# Altium schematic symbol library Ceramic Capacitors.SchLib: 32 symbols
Pins are listed as number, name and electrical type; pins without a type are passive.

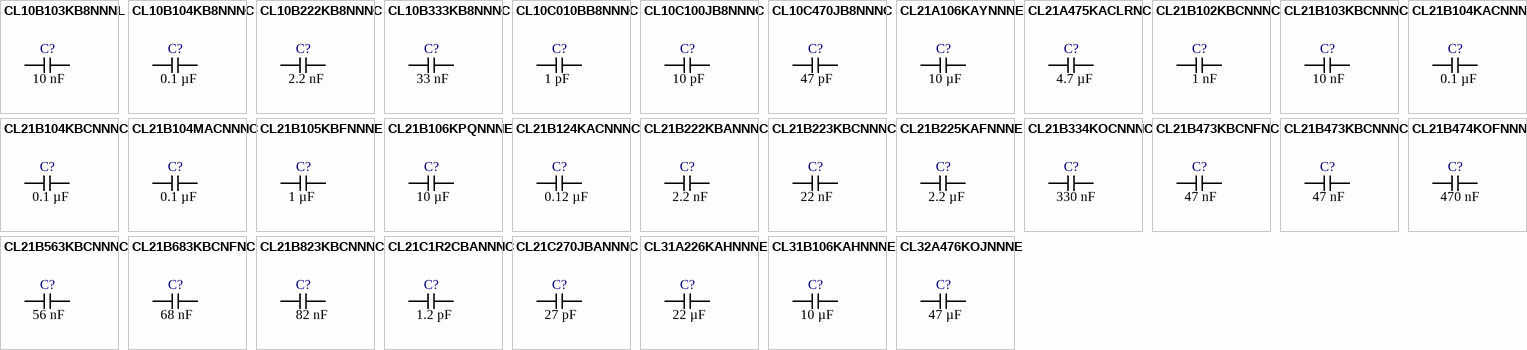
[diagram p0: symbols CL10B103KB8NNNL to CL32A476KOJNNNE]

## CL10B103KB8NNNL
designator C?  Capacitance: 10 nF  (hidden comment: *)
CAP CER 10000PF 50V X7R 0603; Supplier 1: Mouser; Supplier Part Number 1: 187-CL10B103KB8NNNL
footprint SAMSUNG_CAP_0603_090
pins: 1, 2

## CL10B104KB8NNNC
designator C?  Capacitance: 0.1 µF  (hidden comment: *)
CAP CER 0.1UF 50V X7R 0603; Supplier 1: Digi-Key; Supplier 2: Mouser; Supplier 3: Arrow Electronics; Supplier Part Number 1: 1276-1000-6-ND; Supplier Part Number 2: 187-CL10B104KB8NNNC; Supplier Part Number 3: CL10B104KB8NNNC
footprint SAMSUNG_CAP_0603_090
pins: 1, 2

## CL10B222KB8NNNC
designator C?  Capacitance: 2.2 nF  (hidden comment: *)
CAP CER 2200PF 50V X7R 0603; Supplier 1: Digi-Key; Supplier 2: Farnell; Supplier 3: Mouser; Supplier 4: Arrow Electronics; Supplier Part Number 1: 1276-1110-1-ND; Supplier Part Number 2: 3013424; Supplier Part Number 3: 187-CL10B222KB8NNNC; Supplier Part Number 4: CL10B222KB8NNNC
footprint SAMSUNG_CAP_0603_090
pins: 1, 2

## CL10B333KB8NNNC
designator C?  Capacitance: 33 nF  (hidden comment: *)
CAP CER 0.033UF 50V X7R 0603; Supplier 1: Digi-Key; Supplier 2: Mouser; Supplier Part Number 1: 1276-2041-6-ND; Supplier Part Number 2: 187-CL10B333KB8NNNC
footprint SAMSUNG_CAP_0603_090
pins: 1, 2

## CL10C010BB8NNNC
designator C?  Capacitance: 1 pF  (hidden comment: *)
CAP CER 1PF 50V C0G/NP0 0603; Supplier 1: Digi-Key; Supplier 2: Arrow Electronics; Supplier Part Number 1: 1276-1095-1-ND; Supplier Part Number 2: CL10C010BB8NNNC
footprint SAMSUNG_CAP_0603_090
pins: 1, 2

## CL10C100JB8NNNC
designator C?  Capacitance: 10 pF  (hidden comment: *)
CAP CER 10PF 50V C0G/NP0 0603; Supplier 1: Digi-Key; Supplier 2: Farnell; Supplier 3: Mouser; Supplier 4: Arrow Electronics; Supplier Part Number 1: 1276-1027-1-ND; Supplier Part Number 2: 3013438; Supplier Part Number 3: 187-CL10C100JB8NNNC; Supplier Part Number 4: CL10C100JB8NNNC
footprint SAMSUNG_CAP_0603_090
pins: 1, 2

## CL10C470JB8NNNC
designator C?  Capacitance: 47 pF  (hidden comment: *)
CAP CER 47PF 50V C0G/NP0 0603; Supplier 1: Digi-Key; Supplier 2: Farnell; Supplier 3: Mouser; Supplier Part Number 1: 1276-1037-1-ND; Supplier Part Number 2: 3013448; Supplier Part Number 3: 187-CL10C470JB8NNNC
footprint SAMSUNG_CAP_0603_090
pins: 1, 2

## CL21A106KAYNNNE
designator C?  Capacitance: 10 µF  (hidden comment: *)
CAP CER 10UF 25V X5R 0805; Supplier 1: Digikey; Supplier Part Number 1: 1276-2891-1-ND; Supplier 2: Farnell; Supplier Part Number 2: 3013452; Supplier 3: Mouser; Supplier Part Number 3: 187-CL21A106KAYNNNE
footprint SAMSUNG_CAP_0805_145
pins: 1, 2

## CL21A475KACLRNC
designator C?  Capacitance: 4.7 µF  (hidden comment: *)
CAP CER 4.7UF 25V X5R 0805; Supplier 1: Digi-Key; Supplier 2: Mouser; Supplier 3: Arrow Electronics; Supplier Part Number 1: 1276-2415-1-ND; Supplier Part Number 2: 187-CL21A475KACLRNC; Supplier Part Number 3: CL21A475KACLRNC
footprint SAMSUNG_CAP_0805_095
pins: 1, 2

## CL21B102KBCNNNC
designator C?  Capacitance: 1 nF  (hidden comment: *)
CAP CER 1000PF 50V X7R 0805; Supplier 1: Digi-Key; Supplier 2: Farnell; Supplier 3: Mouser; Supplier Part Number 1: 1276-2425-1-ND; Supplier Part Number 2: 3013468; Supplier Part Number 3: 187-CL21B102KBCNNNC
footprint SAMSUNG_CAP_0805_095
pins: 1, 2

## CL21B103KBCNNNC
designator C?  Capacitance: 10 nF  (hidden comment: *)
CAP CER 10000PF 50V X7R 0805; Supplier 1: Digi-Key; Supplier 2: Farnell; Supplier 3: Mouser; Supplier 4: Arrow Electronics; Supplier Part Number 1: 1276-1078-6-ND; Supplier Part Number 2: 3013471; Supplier Part Number 3: 187-CL21B103KBCNNNC; Supplier Part Number 4: CL21B103KBCNNNC
footprint SAMSUNG_CAP_0805_095
pins: 1, 2

## CL21B104KACNNNC
designator C?  Capacitance: 0.1 µF  (hidden comment: *)
CAP CER 0.1UF 25V X7R 0805; Supplier 1: Digi-Key; Supplier 2: Farnell; Supplier 3: Mouser; Supplier Part Number 1: 1276-1099-1-ND; Supplier Part Number 2: 3013475; Supplier Part Number 3: 187-CL21B104KACNNNC
footprint SAMSUNG_CAP_0805_095
pins: 1, 2

## CL21B104KBCNNNC
designator C?  Capacitance: 0.1 µF  (hidden comment: *)
CAP CER 0.1UF 50V X7R 0805; Supplier 1: Digi-Key; Supplier 2: Farnell; Supplier 3: Mouser; Supplier Part Number 1: 1276-1003-6-ND; Supplier Part Number 2: 3013476; Supplier Part Number 3: 187-CL21B104KBCNNNC
footprint SAMSUNG_CAP_0805_095
pins: 1, 2

## CL21B104MACNNNC
designator C?  Capacitance: 0.1 µF  (hidden comment: *)
CAP CER 0.1UF 25V X7R 0805; Supplier 1: Digi-Key; Supplier 2: Mouser; Supplier 3: Arrow Electronics; Supplier Part Number 1: 1276-2449-1-ND; Supplier Part Number 2: 187-CL21B104MACNNNC; Supplier Part Number 3: CL21B104MACNNNC
footprint SAMSUNG_CAP_0805_095
pins: 1, 2

## CL21B105KBFNNNE
designator C?  Capacitance: 1 µF  (hidden comment: *)
CAP CER 1UF 50V X7R 0805; Supplier 1: Digi-Key; Supplier 2: Farnell; Supplier 3: Mouser; Supplier Part Number 1: 1276-1029-1-ND; Supplier Part Number 2: 3013482; Supplier Part Number 3: 187-CL21B105KBFNNNE
footprint SAMSUNG_CAP_0805_135
pins: 1, 2

## CL21B106KPQNNNE
designator C?  Capacitance: 10 µF  (hidden comment: *)
CAP CER 10UF 10V X7R 0805; Supplier 1: Digi-Key; Supplier 2: Farnell; Supplier 3: Mouser; Supplier Part Number 1: 1276-1764-6-ND; Supplier Part Number 2: 3013487; Supplier Part Number 3: 187-CL21B106KPQNNNE
footprint SAMSUNG_CAP_0805_140
pins: 1, 2

## CL21B124KACNNNC
designator C?  Capacitance: 0.12 µF  (hidden comment: *)
CAP CER 0.12UF 25V X7R 0805; Supplier 1: Arrow Electronics; Supplier Part Number 1: CL21B124KACNNNC
footprint SAMSUNG_CAP_0805_095
pins: 1, 2

## CL21B222KBANNNC
designator C?  Capacitance: 2.2 nF  (hidden comment: *)
CAP CER 2200PF 50V X7R 0805; Supplier 1: Digi-Key; Supplier 2: Farnell; Supplier 3: Mouser; Supplier Part Number 1: 1276-1171-1-ND; Supplier Part Number 2: 3013488; Supplier Part Number 3: 187-CL21B222KBANNNC
footprint SAMSUNG_CAP_0805_075
pins: 1, 2

## CL21B223KBCNNNC
designator C?  Capacitance: 22 nF  (hidden comment: *)
CAP CER 0.022UF 50V X7R 0805
footprint SAMSUNG_CAP_0805_095
pins: 1, 2

## CL21B225KAFNNNE
designator C?  Capacitance: 2.2 µF  (hidden comment: *)
CAP CER 2.2UF 25V X7R 0805; Supplier 1: Digi-Key; Supplier 2: Mouser; Supplier Part Number 1: 1276-2954-1-ND; Supplier Part Number 2: 187-CL21B225KAFNNNE
footprint SAMSUNG_CAP_0805_135
pins: 1, 2

## CL21B334KOCNNNC
designator C?  Capacitance: 330 nF  (hidden comment: *)
CAP CER 0.33UF 16V X7R 0805; Supplier 1: Digi-Key; Supplier 2: Mouser; Supplier 3: Arrow Electronics; Supplier Part Number 1: 1276-1797-1-ND; Supplier Part Number 2: 187-CL21B334KOCNNNC; Supplier Part Number 3: CL21B334KOCNNNC
footprint SAMSUNG_CAP_0805_095
pins: 1, 2

## CL21B473KBCNFNC
designator C?  Capacitance: 47 nF  (hidden comment: *)
CAP CER 0.047UF 50V X7R 0805
footprint SAMSUNG_CAP_0805_095
pins: 1, 2

## CL21B473KBCNNNC
designator C?  Capacitance: 47 nF  (hidden comment: *)
CAP CER 0.047UF 50V X7R 0805; Supplier 1: Digi-Key; Supplier 2: Mouser; Supplier 3: Arrow Electronics; Supplier Part Number 1: 1276-1250-1-ND; Supplier Part Number 2: 187-CL21B473KBCNNNC; Supplier Part Number 3: CL21B473KBCNNNC
footprint SAMSUNG_CAP_0805_095
pins: 1, 2

## CL21B474KOFNNNE
designator C?  Capacitance: 470 nF  (hidden comment: *)
CAP CER 0.47UF 16V X7R 0805; Supplier 1: Digi-Key; Supplier 2: Mouser; Supplier 3: Arrow Electronics; Supplier Part Number 3: CL21B474KOFNNNE; Supplier Part Number 2: 187-CL21B474KOFNNNE; Supplier Part Number 1: 1276-1199-1-ND
footprint SAMSUNG_CAP_0805_135
pins: 1, 2

## CL21B563KBCNNNC
designator C?  Capacitance: 56 nF  (hidden comment: *)
CAP CER 0.056UF 50V X7R 0805; Supplier 1: Digi-Key; Supplier 2: Arrow Electronics; Supplier Part Number 1: 1276-2536-1-ND; Supplier Part Number 2: CL21B563KBCNNNC
footprint SAMSUNG_CAP_0805_095
pins: 1, 2

## CL21B683KBCNFNC
designator C?  Capacitance: 68 nF  (hidden comment: *)
CAP CER 0.068UF 50V X7R 0805
footprint SAMSUNG_CAP_0805_095
pins: 1, 2

## CL21B823KBCNNNC
designator C?  Capacitance: 82 nF  (hidden comment: *)
CAP CER 0.082UF 50V X7R 0805; Supplier 1: Digi-Key; Supplier Part Number 1: 1276-2463-1-ND
footprint SAMSUNG_CAP_0805_095
pins: 1, 2

## CL21C1R2CBANNNC
designator C?  Capacitance: 1.2 pF  (hidden comment: *)
CAP CER 1.2PF 50V C0G/NP0 0805
footprint SAMSUNG_CAP_0805_075
pins: 1, 2

## CL21C270JBANNNC
designator C?  Capacitance: 27 pF  (hidden comment: *)
CAP CER 27PF 50V C0G/NP0 0805; Supplier 1: Digi-Key; Supplier Part Number 1: 1276-1285-1-ND
footprint SAMSUNG_CAP_0805_075
pins: 1, 2

## CL31A226KAHNNNE
designator C?  Capacitance: 22 µF  (hidden comment: *)
CAP CER 22UF 25V X5R 1206; Supplier 1: Digikey; Supplier Part Number 1: 1276-3047-1-ND; Supplier 2: Farnell; Supplier Part Number 2: 3013515; Supplier 3: Mouser; Supplier Part Number 3: 187-CL31A226KAHNNNE
footprint SAMSUNG_CAP_1206_180
pins: 1, 2

## CL31B106KAHNNNE
designator C?  Capacitance: 10 µF  (hidden comment: *)
CAP CER 10UF 25V X7R 1206; Supplier 1: Digi-Key; Supplier 2: Farnell; Supplier 3: Mouser; Supplier 4: Arrow Electronics; Supplier Part Number 1: 1276-1804-1-ND; Supplier Part Number 2: 3013526; Supplier Part Number 3: 187-CL31B106KAHNNNE; Supplier Part Number 4: CL31B106KAHNNNE
footprint SAMSUNG_CAP_1206_180
pins: 1, 2

## CL32A476KOJNNNE
designator C?  Capacitance: 47 µF  (hidden comment: *)
CAP CER 47UF 16V X5R 1210; Supplier 1: Digi-Key; Supplier 2: Mouser; Supplier 3: Arrow Electronics; Supplier Part Number 1: 1276-3376-1-ND; Supplier Part Number 2: 187-CL32A476KOJNNNE; Supplier Part Number 3: CL32A476KOJNNNE
footprint SAMSUNG_CAP_1210_270
pins: 1, 2